# EAGLE library part 62532020621 (library Wuerth_Elektronik_eiCan_05_Box_Header_IDC_Connectors_1_2)
WR-BHD 2.00mm Male SMT Box Header High Temperature, 20 pins
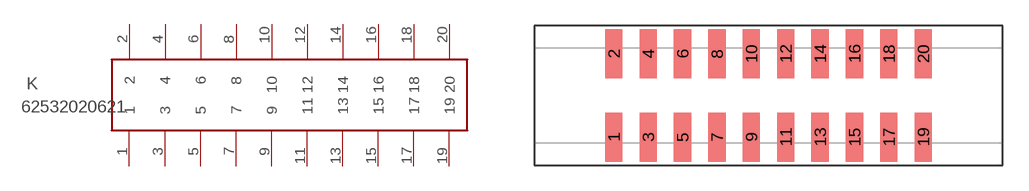
[diagram p49: symbol with the pads of 62532020621; footprint 62532020621]

Designator prefix K

## 62532020621  [62532020621]
1  1  pas
2  2  pas
3  3  pas
4  4  pas
5  5  pas
6  6  pas
7  7  pas
8  8  pas
9  9  pas
10  10  pas
11  11  pas
12  12  pas
13  13  pas
14  14  pas
15  15  pas
16  16  pas
17  17  pas
18  18  pas
19  19  pas
20  20  pas

## Footprint 62532020621 (pad centres in mm)
WRBHD-2.00mm Male SMT Box Header High Temperature,20 pins
smd 1 x 2.85: 1 -6,-2.425; 2 -6,2.425; 3 -4,-2.425; 4 -4,2.425; 5 -2,-2.425; 6 -2,2.425; 7 0,-2.425; 8 0,2.425; 9 2,-2.425; 10 2,2.425; 11 4,-2.425; 12 4,2.425; 13 6,-2.425; 14 6,2.425; 15 8,-2.425; 16 8,2.425; 17 10,-2.425; 18 10,2.425; 19 12,-2.425; 20 12,2.425